# EAGLE library part LTC3440EMSPBF (library LTC)
Micropower Synchronous Buck-Boost DC/DC Converter
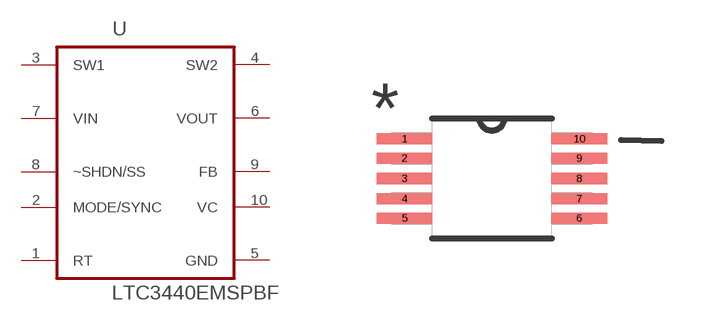
[diagram p0: symbol with the pads of SOP50P490X110-10N; footprint SOP50P490X110-10N]

Designator prefix U

## LTC3440EMSPBF (MPN: LTC3440EMS#PBF; OC_FARNELL: 1273938; OC_NEWARK: 73K4393; PACKAGE: MSOP-10; SUPPLIER: Linear Technology)  [SOP50P490X110-10N]
1  RT  pas
2  MODE/SYNC  in
3  SW1  pas
4  SW2  pas
5  GND  pas
6  VOUT  pwr
7  VIN  pwr
8  ~SHDN/SS  in
9  FB  in
10  VC  out

## Footprint SOP50P490X110-10N (pad centres in mm)
smd 1.397 x 0.279: 1 -2.184,0.991; 2 -2.184,0.508; 3 -2.184,0; 4 -2.184,-0.508; 5 -2.184,-0.991; 6 2.184,-0.991; 7 2.184,-0.508; 8 2.184,0; 9 2.184,0.508; 10 2.184,0.991